# Altium footprint library TP_1mm.PcbLib: 1 footprints
Each footprint in its own frame and in the unit in brackets; x right, y up, seen from the top. Pads: shape width x height; smd on the part's side, far side on the other; paste and mask are expansions set on the pad; w line width, h text height; cw(c..) or ccw(c..) is an arc to the next point about the centre after c.
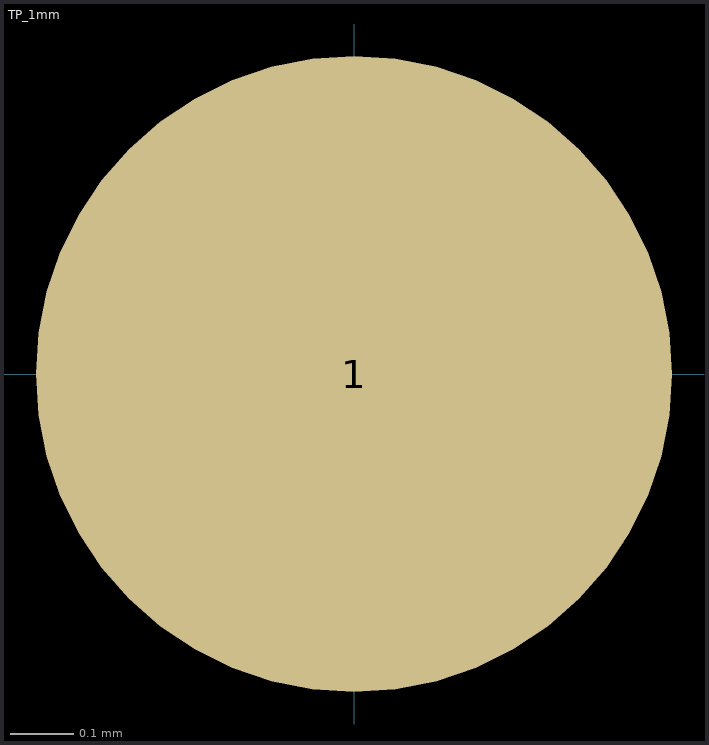
[diagram p0: the footprint, top view; thin cyan lines are the x and y axes]

## TP_1mm [mm] "PTR1TP14R (PTR1)"
height 21.9
pads (1):
  round 1 smd paste-999: 1(0,0)
Top Designator:
  text ".Designator" at -2.499,-0.167 h0.5